# Altium footprint library myPcbLib.PcbLib: 124 footprints (part 1 of 8)
Each footprint in its own frame and in the unit in brackets; x right, y up, seen from the top. Pads: shape width x height; smd on the part's side, far side on the other; paste and mask are expansions set on the pad; w line width, h text height; cw(c..) or ccw(c..) is an arc to the next point about the centre after c.
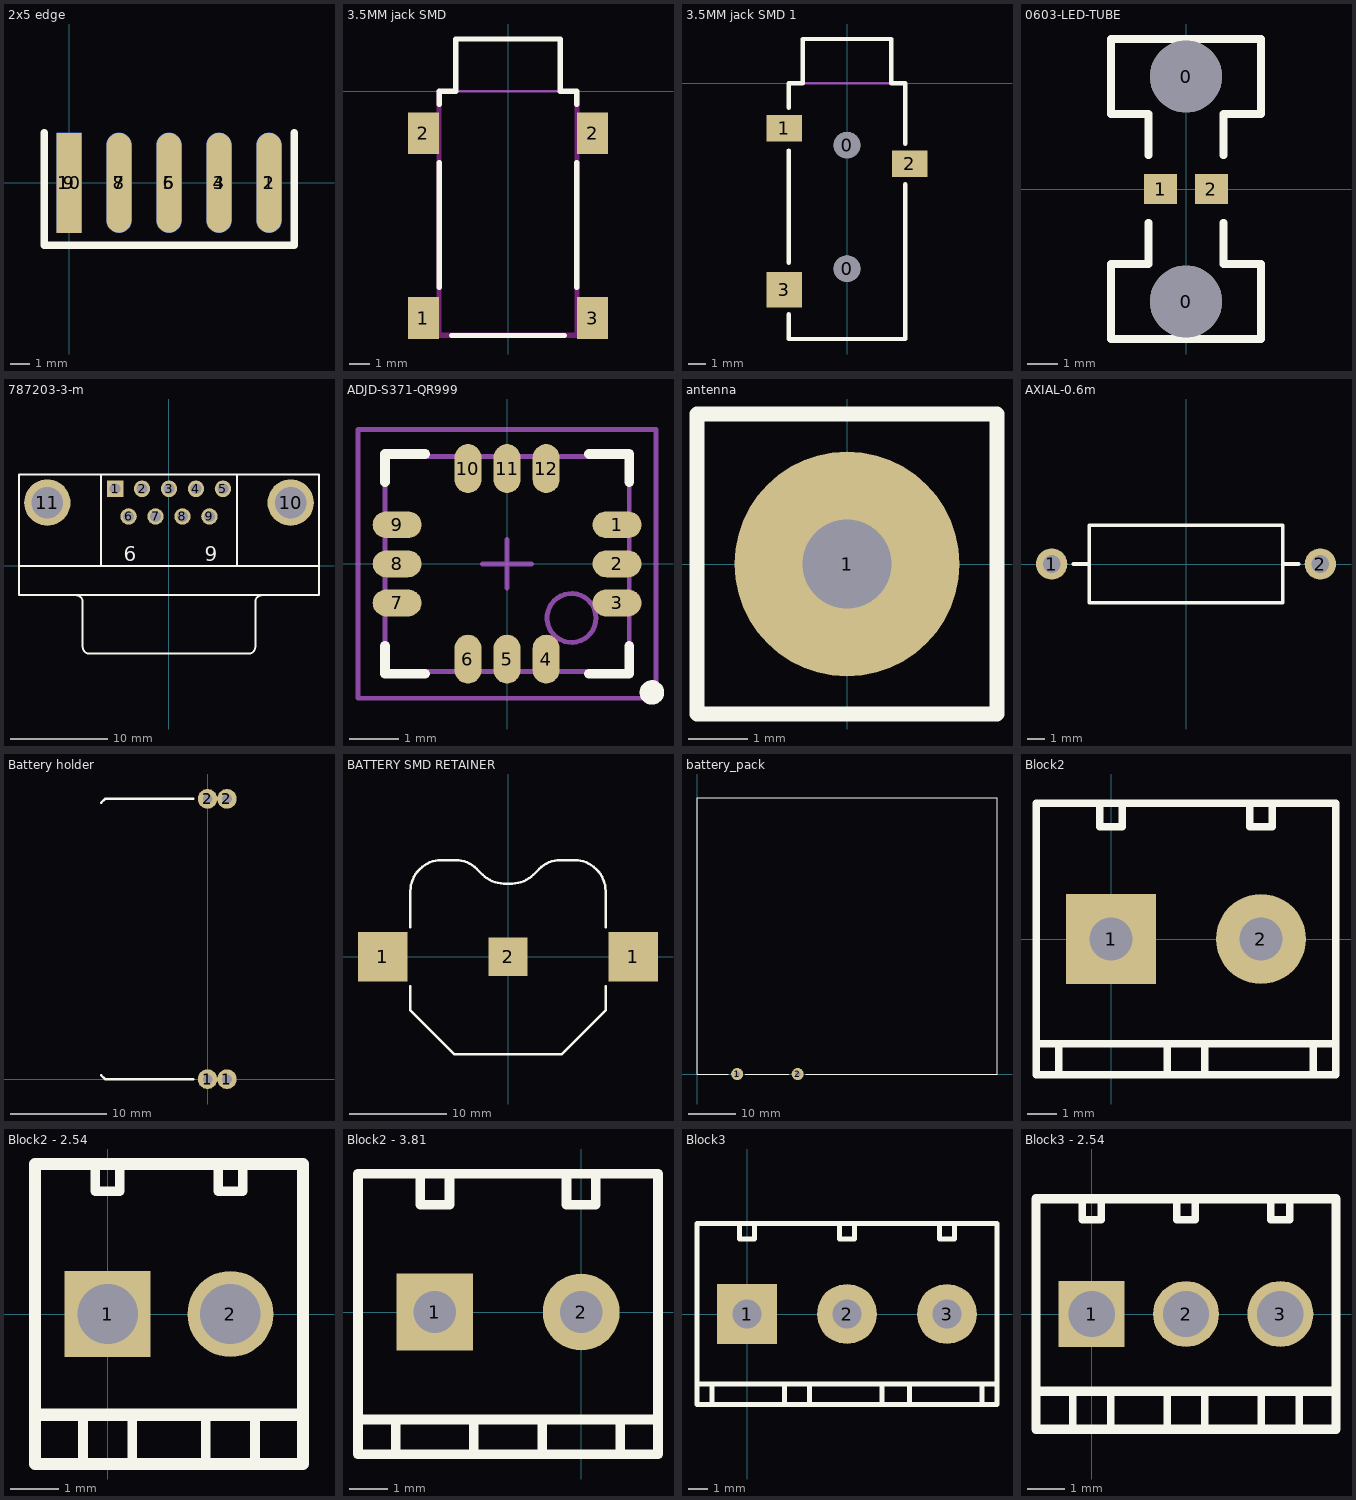
[diagram p0: the footprints below, top view; thin cyan lines are the x and y axes]

## 2x5 edge [mm]
pads (10):
  oval 1.27x5.08 smd: 1(10.16,0) 3(7.62,0) 5(5.08,0) 7(2.54,0)
  oval 1.27x5.08 smd far side: 2(10.16,0) 4(7.62,0) 6(5.08,0) 8(2.54,0)
  rect 1.27x5.08 smd: 9(0,0)
  rect 1.27x5.08 smd far side: 10(0,0)
Top Overlay:
  lines w0.381: -1.27,2.54 -1.27,-3.175 11.43,-3.175 11.43,2.54

## 3.5MM jack SMD [mm]
pads (4):
  rect 1.5x2 smd: 1(-4.05,-10.87) 2(-4.05,-2.02) 2(4.05,-2.02) 3(4.05,-10.87)
Top Overlay:
  lines w0.254: -3.3,-9.398 -3.3,-3.429 ; -3.3,-0.635 -3.3,0 -2.5,0 -2.5,2.5 2.5,2.5 2.5,0 3.3,0 3.3,-0.635 ; -2.7,-11.7 2.7,-11.7 ; 3.3,-9.398 3.3,-3.429
Keep-Out Layer:
  lines w0.254: -3.302,0 -3.302,-11.684 3.302,-11.684 3.302,-0.127
Mechanical 1:
  lines w0.127: -3.302,0 3.175,0
  text "PCB edge" at -2.032,0.381 h0.51

## 3.5MM jack SMD 1 [mm]
pads (5):
  round 1.5 hole 1.5: 0(0,-10.5) 0(0,-3.5)
  rect 2x1.5 smd: 1(-3.556,-2.54) 2(3.556,-4.572)
  rect 2x2 smd: 3(-3.556,-11.684)
Top Overlay:
  lines w0.254: -3.302,-13.081 -3.302,-14.478 3.302,-14.478 3.302,-5.715 ; -3.302,-10.16 -3.302,-3.81 ; -3.3,-1.397 -3.3,0 -2.5,0 -2.5,2.5 2.5,2.5 2.5,0 3.3,0 3.3,-3.429
Mechanical 1:
  lines w0.127: -3.302,0 3.175,0
  text "PCB edge" at -2.032,0.381 h0.51

## 0603-LED-TUBE [mm] "0603 Tube LED"
height 1.35
pads (4):
  round 2.4 hole 2.4: 0(0,-3.75) 0(0,3.75)
  rect 1.1x1 smd: 1(-0.85,0) 2(0.85,0)
Top Overlay:
  lines w0.254: -1.25,-1.123 -1.25,-2.5 -2.5,-2.5 -2.5,-5 2.5,-5 2.5,-2.5 1.25,-2.5 1.25,-1.123 ; -1.25,1.123 -1.25,2.5 -2.5,2.5 -2.5,5 2.5,5 2.5,2.5 1.25,2.5 1.25,1.123
3D body: height 1.9, standoff -13.1, extent -1.5,-5 1.5,5

## 787203-3-m [mm] "Connector; D Subminiature AMPLIMITE 2000; 9 Position; Right Angle"
height 12.93
pads (11):
  rect 1.69x1.69 hole 1.09: 1(-5.54,7.92)
  round 1.69 hole 1.09: 2(-2.77,7.92) 3(0,7.92) 4(2.77,7.92) 5(5.54,7.92) 6(-4.155,5.08) 7(-1.385,5.08) 8(1.385,5.08) 9(4.155,5.08)
  round 4.76 hole 3.26: 10(12.495,6.5) 11(-12.495,6.5)
Top Overlay:
  lines w0.2: -15.4,0 15.4,0 ; -9.56,-3.005 cw(c-9.56,-3.7) -8.865,-3.7 -8.865,-8.3 ; -8.86,-8.305 ccw(c-8.165,-8.305) -8.165,-9 8.165,-9 ccw(c8.165,-8.305) 8.86,-8.305 ; -7,0 -7,9.4 ; 7,0 7,9.4 ; 8.865,-8.3 8.865,-3.7 cw(c9.56,-3.7) 9.56,-3.005 ; -15.4,-3 15.4,-3 15.4,9.4 -15.4,9.4 -15.4,-3
  text "9" at 3.655,0.48 h1.5
  text "6" at -4.655,0.48 h1.5
3D body: height 12.5, standoff -3.8, extent -15.453,-9.066 15.357,10.134

## ADJD-S371-QR999 [mm] "Miniature Surface-Mount RGB Digital Color Sensor Module"
height 0.8
pads (12):
  oval 1x0.55 smd: 1(2.25,0.8) 2(2.25,0) 3(2.25,-0.8) 7(-2.25,-0.8) 8(-2.25,0) 9(-2.25,0.8)
  oval 0.55x1 smd: 4(0.8,-1.95) 5(0,-1.95) 6(-0.8,-1.95) 10(-0.8,1.95) 11(0,1.95) 12(0.8,1.95)
Top Overlay:
  circle w0.25: c2.963,-2.631 r0.125
  lines w0.2: -2.5,-1.675 -2.5,-2.25 -1.675,-2.25 ; -2.5,1.675 -2.5,2.25 -1.675,2.25 ; 1.675,-2.25 2.5,-2.25 2.5,-1.675 ; 1.675,2.25 2.5,2.25 2.5,1.675
Mechanical 13:
  circle w0.1: c1.318,-1.107 r0.5
  lines w0.1: -2.5,-2.2 2.5,-2.2 2.5,2.2 -2.5,2.2 -2.5,-2.2
Mechanical 15:
  lines w0.1: -0.5,0 0.5,0 ; 0,-0.5 0,0.5 ; -3.05,-2.75 3.05,-2.75 3.05,2.75 -3.05,2.75 -3.05,-2.75
3D body: height 0.8, standoff 0.01, extent -2.5,-2.2 2.5,2.2

## antenna [mm]
pads (1):
  round 3.81 hole 1.5: 1(0,0)
Top Overlay:
  lines w0.254: -2.54,-2.54 -2.54,2.54 2.54,2.54 2.54,-2.54 -2.54,-2.54

## AXIAL-0.6m [mil] "Axial Device, Thru-Hole; 2 Leads; 0.6 in Pin Spacing"
height 100
pads (2):
  round 70 hole 39.37: 1(-300,0) 2(300,0)
Top Overlay:
  lines w7.87: -251.97,0 -216.54,0 ; 216.54,0 251.97,0 ; -216.54,-86.61 216.54,-86.61 216.54,86.61 -216.54,86.61 -216.54,-86.61

## Battery holder [mm] "Battery 23A - 12 V"
pads (4):
  round 2.032 hole 1: 1(0,0) 1(2,0) 2(0,29) 2(2,29)
Top Overlay:
  lines w0.254: -11,0.4 -10.6,0 -1.5,0 ; -11,28.6 -10.6,29 -1.5,29

## BATTERY SMD RETAINER [mil] "KEYSTONE - 3002 - BATTERY SMD RETAINER,20MM"
pads (3):
  rect 200x200 smd: 1(-505,0) 1(505,0)
  rect 156x156 smd: 2(0,0)
Top Overlay:
  lines w10: -393.7,-118.11 -393.7,-216.54 -216.54,-393.7 0,-393.7 216.54,-393.7 393.7,-216.54 393.7,-118.11 ; -393.7,118.11 -393.7,264.96 cw(c-272.99,264.96) -358.35,350.32 -354.25,354.41 cw(c-268.9,269.05) -268.9,389.76 -211.42,389.76 cw(c-211.42,269.05) -126.06,354.41 -102.28,330.63 ccw(c-16.93,415.99) -16.93,295.28 0,295.28 16.93,295.28 ccw(c16.93,415.99) 102.28,330.63 126.06,354.41 cw(c211.42,269.05) 211.42,389.76 268.9,389.76 cw(c268.9,269.05) 354.25,354.41 358.35,350.32 cw(c272.99,264.96) 393.7,264.96 393.7,118.11

## battery_pack [mm]
pads (2):
  round 2.54 hole 1.15: 1(8.433,0) 2(21.133,0)
Top Overlay:
  lines w0.254: 6.604,0 0,0 0,57.988 62.992,57.988 62.992,0 22.86,0 ; 10.16,0 19.304,0

## Block2 [mil] "5.08mm"
pads (2):
  rect 120x120 hole 57.09: 1(0,0)
  round 120 hole 57.09: 2(200,0)
Top Overlay:
  lines w10: -100,-140 300,-140 ; -70,-180 -70,-140 ; -15,180 -15,150 15,150 15,180 ; 75,-180 75,-140 ; 125,-180 125,-140 ; 185,180 185,150 215,150 215,180 ; 270,-180 270,-140 ; -100,-181.1 300,-181.1 300,181.1 -100,181.1 -100,-181.1

## Block2 - 2.54 [mil] "2.54mm"
pads (2):
  rect 70x70 hole 49.21: 1(0,0)
  round 70 hole 49.21: 2(100,0)
Top Overlay:
  lines w7.87: -20,-120 -20,-85 ; -10,120 -10,100 10,100 10,120 ; 20,-120 20,-85 ; 80,-120 80,-85 ; 90,120 90,100 110,100 110,120 ; 120,-120 120,-85
  lines w10: -59.06,-82.05 159.06,-82.05 ; -59.06,-122.05 -59.06,122.05 159.06,122.05 159.06,-122.05 -59.06,-122.05

## Block2 - 3.81 [mm] "3.81mm"
pads (2):
  rect 2x2 hole 1.1: 1(-3.81,0)
  round 2 hole 1.1: 2(0,0)
Top Overlay:
  lines w0.254: -5.81,-2.794 2,-2.794 ; -5.81,3.556 -5.81,-3.7 2,-3.7 2,3.6 -5.81,3.6 ; -4.826,-3.7 -4.826,-2.794 ; -4.191,3.556 -4.191,2.794 -3.429,2.794 -3.429,3.556 ; -2.794,-3.7 -2.794,-2.794 ; -1.016,-3.7 -1.016,-2.794 ; -0.381,3.556 -0.381,2.794 0.381,2.794 0.381,3.556 ; 1.016,-3.7 1.016,-2.794

## Block3 [mil] "5.08mm"
pads (3):
  rect 120x120 hole 57.09: 1(0,0)
  round 120 hole 57.09: 2(200,0) 3(400,0)
Top Overlay:
  lines w10: -100,-140 500,-140 ; -70,-180 -70,-140 ; -15,180 -15,150 15,150 15,180 ; 75,-180 75,-140 ; 125,-180 125,-140 ; 185,180 185,150 215,150 215,180 ; 270,-180 270,-140 ; 325,-180 325,-140 ; 385,180 385,150 415,150 415,180 ; 470,-180 470,-140 ; -100,-181.1 -100,181.1 500,181.1 500,-181.1 -100,-181.1

## Block3 - 2.54 [mil] "2.54mm"
pads (3):
  rect 70x70 hole 49.21: 1(0,0)
  round 70 hole 49.21: 2(100,0) 3(200,0)
Top Overlay:
  lines w7.87: -20,-120 -20,-85 ; -10,120 -10,100 10,100 10,120 ; 20,-120 20,-85 ; 80,-120 80,-85 ; 90,120 90,100 110,100 110,120 ; 120,-120 120,-85 ; 180,-120 180,-85 ; 190,120 190,100 210,100 210,120 ; 220,-120 220,-85
  lines w10: -59.06,-82.05 259.06,-82.05 ; -59.06,-122.05 259.06,-122.05 259.06,122.05 -59.06,122.05 -59.06,-122.05